# EAGLE library part BQ24133 (library Custom_Library)
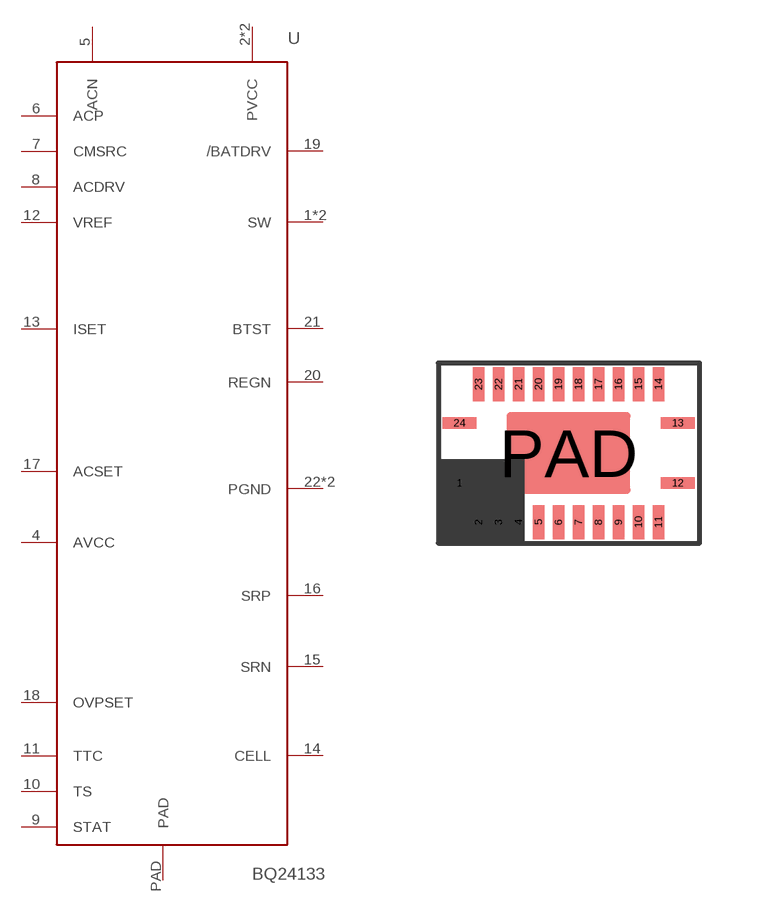
[diagram p5: symbol with the pads of VQFN24; footprint VQFN24]

Designator prefix U

## BQ24133  [VQFN24]
1  SW
2  PVCC
3  PVCC
4  AVCC
5  ACN
6  ACP
7  CMSRC
8  ACDRV
9  STAT
10  TS
11  TTC
12  VREF
13  ISET
14  CELL
15  SRN
16  SRP
17  ACSET
18  OVPSET
19  /BATDRV
20  REGN
21  BTST
22  PGND
23  PGND
24  SW
PAD  PAD

## Footprint VQFN24 (pad centres in mm)
smd 0.85 x 0.28: 1 -2.68,-0.75; 12 2.78,-0.75; 13 2.78,0.75; 24 -2.68,0.75
smd 0.28 x 0.85: 2 -2.2,-1.73; 3 -1.7,-1.73; 4 -1.2,-1.73; 5 -0.7,-1.73; 6 -0.2,-1.73; 7 0.3,-1.73; 8 0.8,-1.73; 9 1.3,-1.73; 10 1.8,-1.73; 11 2.3,-1.73; 14 2.3,1.72; 15 1.8,1.72; 16 1.3,1.72; 17 0.8,1.72; 18 0.3,1.72; 19 -0.2,1.72; 20 -0.7,1.72; 21 -1.2,1.72; 22 -1.7,1.72; 23 -2.2,1.72
smd 3.1 x 2.05: PAD 0.05,0